# EAGLE library part SN74ALVC244 (library sjg-logic)
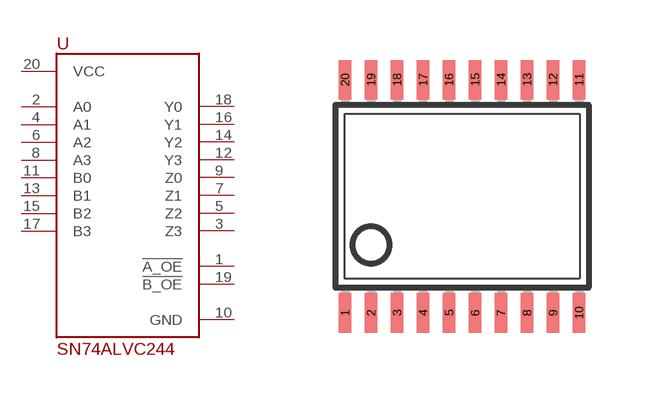
[diagram p5: symbol with the pads of TSSOP20; footprint TSSOP20]

Designator prefix -

## SN74ALVC244  [TSSOP20]
1  !A_OE!
2  A0
3  Z3
4  A1
5  Z2
6  A2
7  Z1
8  A3
9  Z0
10  GND
11  B0
12  Y3
13  B1
14  Y2
15  B2
16  Y1
17  B3
18  Y0
19  !B_OE!
20  VCC

## Footprint TSSOP20 (pad centres in mm)
Thin Shrink Small Outline Plastic 20 MAX3223-MAX3243.pdf
smd 0.305 x 0.991: 1 -2.925,-2.918; 2 -2.275,-2.918; 3 -1.625,-2.918; 4 -0.975,-2.918; 5 -0.325,-2.918; 6 0.325,-2.918; 7 0.975,-2.918; 8 1.625,-2.918; 9 2.275,-2.918; 10 2.925,-2.918; 11 2.925,2.918; 12 2.275,2.918; 13 1.625,2.918; 14 0.975,2.918; 15 0.325,2.918; 16 -0.325,2.918; 17 -0.975,2.918; 18 -1.625,2.918; 19 -2.275,2.918; 20 -2.925,2.918